# Altium schematic symbol library Terminal_Blocks_Rising Cage Clamp_2.54mm.SchLib: 3 symbols
Pins are listed as number, name and electrical type; pins without a type are passive.

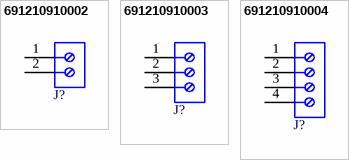
[diagram p0: symbols 691210910002 to 691210910004]

## 691210910002
designator J?, comment 6A, 150V  (value not drawn)
WR-TBL Series 2109 Horizontal Entry, THT, pitch 2.54mm, 2p; Manufacturer Part Number: 691210910002; Manufacturer: Wurth Elektronik; Modularity: No; ComponentLink1Description: Datasheet; ComponentLink1URL: https://www.we-online.com/redexpert/spec/691210910002?ad; Category: Terminal Blocks; Match Code: WR-TBL; Mount: Through Hole; Operating Temperature Max: 105°C; Operating Temperature Min: -40°C; Packaging: Box; Application: Rising Cage Clamp; Number of Pins: 2; Number of Rows: 1; Orientation: Horizontal; Pitch: 2.54mm; Rated Current: 6A; Working Voltage: 150V; Supplier 1 URL: N/A; Supplier 2 URL: N/A; Supplier 3 URL: https://www.thegioiic.com/kf128-2-v-domino-2-chan-thang-2-54mm-150v-6a-han-pcb; Value: 6A, 150V; LCSC Part #: N/A; Supplier 1: Mouser; Supplier 1 Part Number: N/A; Supplier 2: Digi-Key; Supplier 2 Part Number: N/A; Supplier 3: thegioiic; Supplier 3 Part Number: N/A
footprint 691210910002
pins: 1, 2

## 691210910003
designator J?, comment 6A, 150V  (value not drawn)
WR-TBL Series 2109 Horizontal Entry, THT, pitch 2.54mm, 3p; Manufacturer Part Number: 691210910003; Manufacturer: Wurth Elektronik; Modularity: No; ComponentLink1Description: Datasheet; ComponentLink1URL: https://www.we-online.com/redexpert/spec/691210910003?ad; Category: Terminal Blocks; Match Code: WR-TBL; Mount: Through Hole; Operating Temperature Max: 105°C; Operating Temperature Min: -40°C; Packaging: Box; Application: Rising Cage Clamp; Number of Pins: 3; Number of Rows: 1; Orientation: Horizontal; Pitch: 2.54mm; Rated Current: 6A; Working Voltage: 150V; Supplier 1 URL: N/A; Supplier 2 URL: N/A; Supplier 3 URL: https://www.thegioiic.com/kf128-3-v-domino-3-chan-thang-2-54mm-150v-6a-han-pcb; Value: 6A, 150V; LCSC Part #: N/A; Supplier 1: Mouser; Supplier 1 Part Number: N/A; Supplier 2: Digi-Key; Supplier 2 Part Number: N/A; Supplier 3: thegioiic; Supplier 3 Part Number: N/A
footprint 691210910003
pins: 1, 2, 3

## 691210910004
designator J?, comment 6A, 150V  (value not drawn)
WR-TBL Series 2109 Horizontal Entry, THT, pitch 2.54mm, 4p; Manufacturer Part Number: 691210910004; Manufacturer: Wurth Elektronik; Modularity: No; ComponentLink1Description: Datasheet; ComponentLink1URL: https://www.we-online.com/redexpert/spec/691210910004?ad; Category: Terminal Blocks; Match Code: WR-TBL; Mount: Through Hole; Operating Temperature Max: 105°C; Operating Temperature Min: -40°C; Packaging: Box; Application: Rising Cage Clamp; Number of Pins: 4; Number of Rows: 1; Orientation: Horizontal; Pitch: 2.54mm; Rated Current: 6A; Working Voltage: 150V; Supplier 1 URL: N/A; Supplier 2 URL: N/A; Supplier 3 URL: https://www.thegioiic.com/kf120-4-v-domino-4-chan-thang-2-54mm-150v-6a-han-pcb; Value: 6A, 150V; LCSC Part #: N/A; Supplier 1: Mouser; Supplier 1 Part Number: N/A; Supplier 2: Digi-Key; Supplier 2 Part Number: N/A; Supplier 3: thegioiic; Supplier 3 Part Number: N/A
footprint 691210910004
pins: 1, 2, 3, 4